# Altium schematic symbol library DNM.SchLib: 1 symbol
Pins are listed as number, name and electrical type; pins without a type are passive.

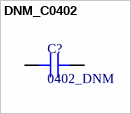
[diagram p0: symbol DNM_C0402]

## DNM_C0402
designator C?, comment 0402_DNM
SMT Capacitor; Value: *; Package: 0402
footprint C0402
pins: 1, 2